# Altium footprint library 62000211622.PcbLib: 1 footprints
Each footprint in its own frame and in the unit in brackets; x right, y up, seen from the top. Pads: shape width x height; smd on the part's side, far side on the other; paste and mask are expansions set on the pad; w line width, h text height; cw(c..) or ccw(c..) is an arc to the next point about the centre after c.
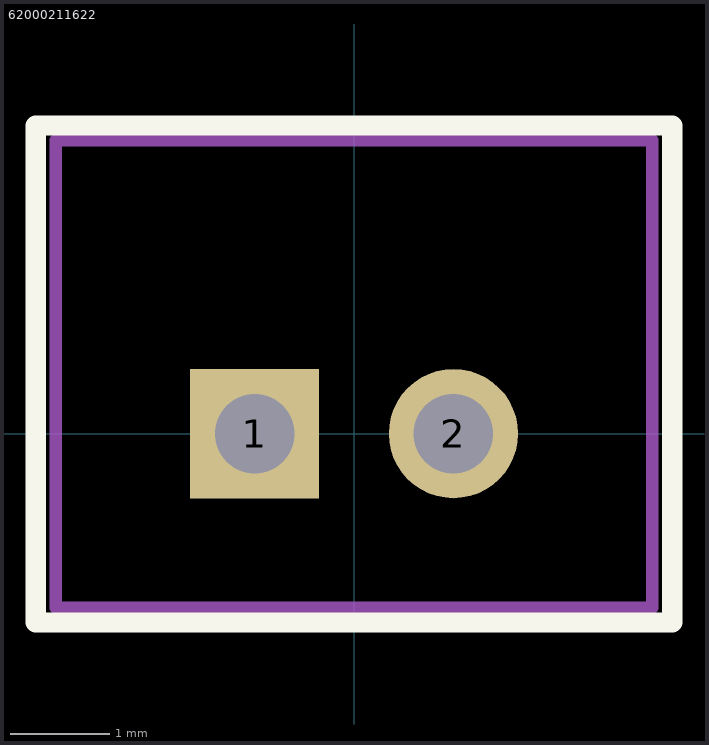
[diagram p0: the footprint, top view; thin cyan lines are the x and y axes]

## 62000211622 [mm] "Male Vertical Shrouded Header - 02p 1 row"
height 6.1
pads (2):
  rect 1.3x1.3 hole 0.8: 1(-1,0)
  round 1.3 hole 0.8: 2(1,0)
Top Overlay:
  lines w0.203: -3.2,-1.9 -3.2,3.1 3.2,3.1 3.2,-1.9 -3.2,-1.9
Mechanical 13:
  lines w0.127: -3,-1.75 3,-1.75 3,2.95 -3,2.95 -3,-1.75
Mechanical 15:
  lines w0.127: -3.2,-1.9 3.2,-1.9 3.2,3.1 -3.2,3.1 -3.2,-1.9
3D body: height 6.07, standoff -3.37, extent -3,-1.725 3,2.925